# EAGLE library part C8051F350 (library Zoli2_2015-01-28)
Mixed signal microcontroller
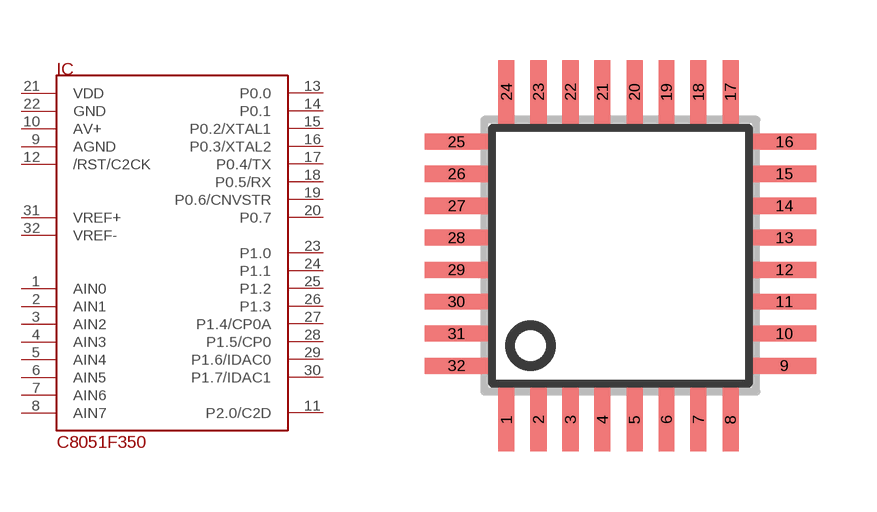
[diagram p14: symbol with the pads of LQFP-32; footprint LQFP-32]

Designator prefix IC

## C8051F350  [LQFP-32]
1  AIN0
2  AIN1
3  AIN2
4  AIN3
5  AIN4
6  AIN5
7  AIN6
8  AIN7
9  AGND  pwr
10  AV+  pwr
11  P2.0/C2D
12  /RST/C2CK
13  P0.0
14  P0.1
15  P0.2/XTAL1
16  P0.3/XTAL2
17  P0.4/TX
18  P0.5/RX
19  P0.6/CNVSTR
20  P0.7
21  VDD  pwr
22  GND  pwr
23  P1.0
24  P1.1
25  P1.2
26  P1.3
27  P1.4/CP0A
28  P1.5/CP0
29  P1.6/IDAC0
30  P1.7/IDAC1
31  VREF+  in
32  VREF-  in

## Footprint LQFP-32 (pad centres in mm)
QFP32 shrink quad flat pack, square
smd 0.4 x 1.6: 1 -2.85,-4.1; 2 -2.05,-4.1; 3 -1.25,-4.1; 4 -0.45,-4.1; 5 0.35,-4.1; 6 1.15,-4.1; 7 1.95,-4.1; 8 2.75,-4.1; 17 2.75,4.1; 18 1.95,4.1; 19 1.15,4.1; 20 0.35,4.1; 21 -0.45,4.1; 22 -1.25,4.1; 23 -2.05,4.1; 24 -2.85,4.1
smd 1.6 x 0.4: 9 4.1,-2.75; 10 4.1,-1.95; 11 4.1,-1.15; 12 4.1,-0.35; 13 4.1,0.45; 14 4.1,1.25; 15 4.1,2.05; 16 4.1,2.85; 25 -4.1,2.85; 26 -4.1,2.05; 27 -4.1,1.25; 28 -4.1,0.45; 29 -4.1,-0.35; 30 -4.1,-1.15; 31 -4.1,-1.95; 32 -4.1,-2.75